# Altium schematic symbol library ECE453.SCHLIB: 85 symbols (part 3 of 4)
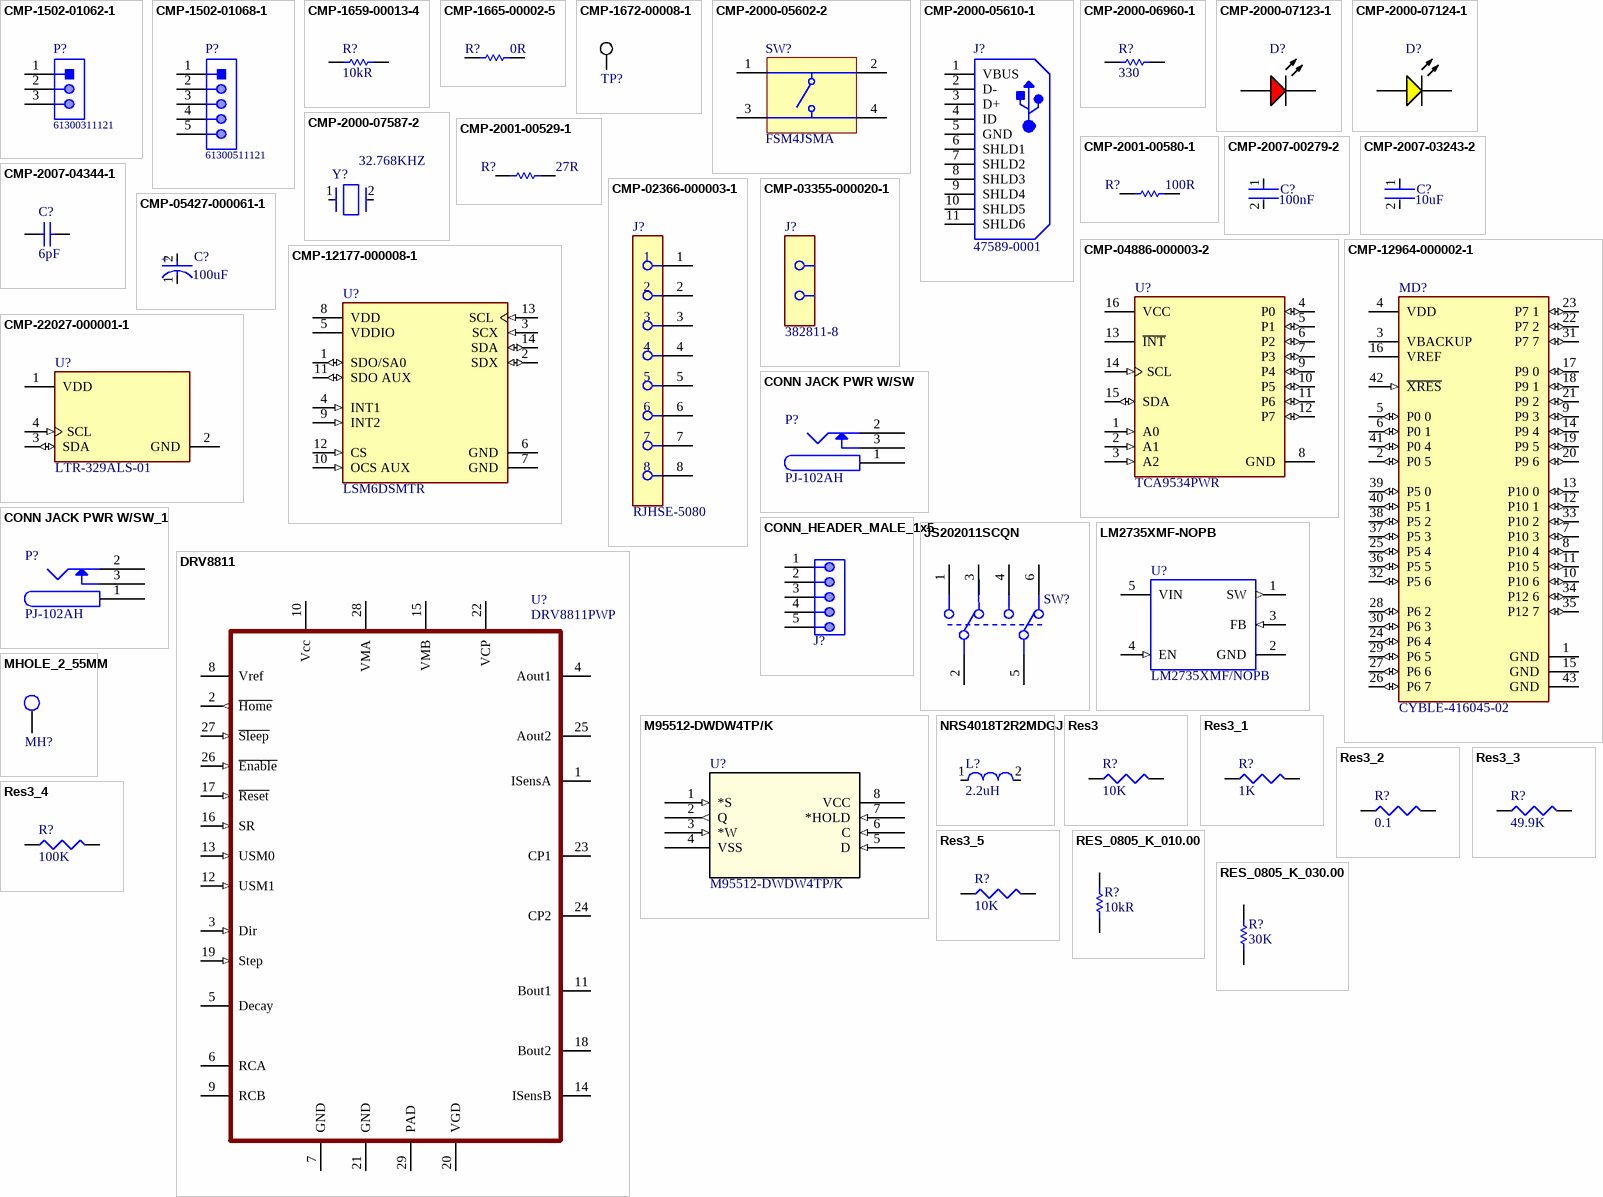
[diagram p4: symbols CMP-1502-01062-1 to RES_0805_K_030.00]

## CMP-2000-07123-1
designator D?, comment SML-LX1206IC-TR  (value not drawn)
LED Red, 65 mW, -40 to 85 degC, 2-Pin SMD, RoHS, Tape and Reel; Manufacturer: Lumex; Manufacturer Part Number: SMLLX1206ICTR; Lens Style: Clear,Diffused,Colorless,Rectangular; Forward Voltage: 2.6V; Viewing Angle: 160°; Luminous Intensity: 6mcd; Wavelength: 635nm; Forward Current: 100mA; Power Rating: 65mW; Voltage Rating (DC): 2V; Number of LEDs: 1; Supplier: Newark; Supplier Part Number: 80K7325; RoHS: Yes; Category: LEDs; Stock: 6050; Pricing: 1=0.099 (USD); Mounting Technology: Surface Mount; Case/Package: 1206; Pins: 2; Color: Red; Min Operating Temperature: -40°C; Max Operating Temperature: 85°C; Packaging: Tape and Reel; Dominant Wavelength: 635nm; Moisture Sensitivity Level: 2; Reach SVHC Compliant: No; Lead Free: Lead Free; ComponentLink1URL: https://datasheet.ciiva.com/12400/sml-lx1206ic-tr-112319-12400827.pdf?src-supplier=Mouser; ComponentLink1Description: https://datasheet.ciiva.com/12400/sml-lx1206ic-tr-112319-12400827.pdf?src-supplier=Mouser; ComponentLink2URL: https://datasheet.ciiva.com/2110/sml-lx1206ic-tr-2110300.pdf?src-supplier=Digi-Key; ComponentLink2Description: https://datasheet.ciiva.com/2110/sml-lx1206ic-tr-2110300.pdf?src-supplier=Digi-Key; ComponentLink3URL: https://datasheet.ciiva.com/2110/sml-lx1206ic-tr-2110301.pdf?src-supplier=Digi-Key; ComponentLink3Description: https://datasheet.ciiva.com/2110/sml-lx1206ic-tr-2110301.pdf?src-supplier=Digi-Key; ComponentLink4URL: https://datasheet.ciiva.com/2110/sml-lx1206ic-tr-2110302.pdf?src-supplier=Digi-Key; ComponentLink4Description: https://datasheet.ciiva.com/2110/sml-lx1206ic-tr-2110302.pdf?src-supplier=Digi-Key; ComponentLink5URL: https://datasheet.ciiva.com/15967/sml-lx1206ic-tr-15967210.pdf?src-supplier=Onlinecomponents.com; ComponentLink5Description: https://datasheet.ciiva.com/15967/sml-lx1206ic-tr-15967210.pdf?src-supplier=Onlinecomponents.com; ComponentLink6URL: https://datasheet.ciiva.com/8072/195796-8072871.pdf?src-supplier=Element14; ComponentLink6Description: https://datasheet.ciiva.com/8072/195796-8072871.pdf?src-supplier=Element14; ComponentLink7URL: https://datasheet.ciiva.com/8073/195796-8073097.pdf?src-supplier=Element14; ComponentLink7Description: https://datasheet.ciiva.com/8073/195796-8073097.pdf?src-supplier=Element14
footprint LUMX-SML-LX1206IC_V (SMD, 2-Leads, Body 3.2x1.5mm)
pins: 1 A, 2 K

## CMP-2000-07124-1
designator D?, comment SML-LX1206YC-TR  (value not drawn)
Yellow LED, Water Clear Len, 585 nm, 2.1 V, -40 to 85 degC, 2-Pin SMD, RoHS, Tape and Reel; Manufacturer: Lumex; Lens Color: Colorless,Clear; Viewing Angle: 160°; Lens Style: Flat,Rectangular,Diffused,Colorless; Forward Current: 20mA; Forward Voltage: 2.1V; Power Rating: 65mW; Luminous Intensity: 6mcd; Wavelength: 585nm; Dominant Wavelength: 568nm; Number of LEDs: 1; Lens Size: 1.5mm; Approvals: UL,CSA; Supplier: Newark; Supplier Part Number: 09J9559; Manufacturer Part Number: SML-LX1206YC-TR; RoHS: Yes; Category: LEDs; Stock: 947; Pricing: 1=0.367, 25=0.241, 50=0.203, 100=0.164, 250=0.144, 500=0.122, 1000=0.105 (USD); Mounting Technology: Surface Mount; Case/Package: 1206; Pins: 2; Color: Yellow; Case Code (Metric): 3216; Case Code (Imperial): 1206; Min Operating Temperature: -25°C; Max Operating Temperature: 85°C; Package Quantity: 3000; Packaging: Tape and Reel; Illumination Color: Yellow; Test Current: 20mA; Lens Transparency: Clear; Series: -; Moisture Sensitivity Level: 2; Length: 3.2mm; Width: 1.6mm; Height: 1.1mm; Reach SVHC Compliant: No; Lead Free: Lead Free; RoHS Compliant: Yes; ComponentLink1URL: https://datasheet.ciiva.com/4689/sml-lx1206yc-tr-112772-4689232.pdf?src-supplier=Mouser; ComponentLink1Description: https://datasheet.ciiva.com/4689/sml-lx1206yc-tr-112772-4689232.pdf?src-supplier=Mouser; ComponentLink2URL: https://datasheet.ciiva.com/8072/269322-8072890.pdf?src-supplier=Element14; ComponentLink2Description: https://datasheet.ciiva.com/8072/269322-8072890.pdf?src-supplier=Element14; ComponentLink3URL: https://datasheet.ciiva.com/2110/sml-lx1206yc-tr-2110320.pdf?src-supplier=Digi-Key; ComponentLink3Description: https://datasheet.ciiva.com/2110/sml-lx1206yc-tr-2110320.pdf?src-supplier=Digi-Key; ComponentLink4URL: https://datasheet.ciiva.com/8073/269322-8073067.pdf?src-supplier=Element14; ComponentLink4Description: https://datasheet.ciiva.com/8073/269322-8073067.pdf?src-supplier=Element14
footprint LUMX-SML-LX1206YC-TR_V (SMD, 2-Leads, Body 3.2x1.5mm)
pins: 1 A, 2 K

## CMP-2000-07587-2
designator Y?, comment 32.768KHZ
CRYSTAL 32.7680KHZ 6PF SMD; Manufacturer: Abracon; Manufacturer Part Number: ABS07-120-32.768KHZ-T; Tolerance: 20ppm; ESR (Equivalent Series Resistance): 55kR; ESR: 60kR; Supplier: Newark; Supplier Part Number: 56AC7523; RoHS: Yes; Category: Crystals; Stock: 20747; Pricing: 1=0.587, 25=0.587, 50=0.587, 100=0.587, 250=0.587, 500=0.587, 1000=0.532 (USD); Mounting Technology: Surface Mount; Case/Package: SMD/SMT; Pins: 2; Min Operating Temperature: -40°C; Max Operating Temperature: 85°C; Frequency: 32.768kHz; Load Capacitance: 6pF; Frequency Tolerance: 20ppm; Packaging: Tape and Reel; Package Quantity: 3000; Termination: SMD/SMT; Series: ABS07; Operating Frequency: 32.768 kHz; Length: 3.2mm; Width: 1.5mm; Height: 0.9mm; Depth: 1.5mm; Radiation Hardening: No; Reach SVHC Compliant: No; Lead Free: Lead Free; RoHS Compliant: Yes; ComponentLink1URL: https://datasheet.ciiva.com/6728/abs07-120-32-768khz-t-6728893.pdf?src-supplier=Digi-Key; ComponentLink1Description: https://datasheet.ciiva.com/6728/abs07-120-32-768khz-t-6728893.pdf?src-supplier=Digi-Key; ComponentLink2URL: https://datasheet.ciiva.com/12387/abs07-120-32-768khz-t-218607-12387629.pdf?src-supplier=Mouser; ComponentLink2Description: https://datasheet.ciiva.com/12387/abs07-120-32-768khz-t-218607-12387629.pdf?src-supplier=Mouser
footprint FP-ABS07-120-MFG
pins: 1, 2

## CMP-2001-00529-1
designator R?, comment value 27R  (hidden comment: ERJ6ENF27R0V)
Res Thick Film 0805 27 Ohm 1% 1/8W ±100ppm/°C Molded SMD Punched Carrier T/R; Manufacturer: Vishay; Manufacturer Part Number: CRCW080527R0FKEAHP; Manufacturer: Panasonic; Manufacturer Part Number: ERJ-6ENF27R0V; Max Power Dissipation: 500mW; Power Rating: 330mW; Voltage Rating (DC): 150V; Supplier: Newark; Supplier Part Number: 95AC8908; RoHS: Yes; Category: Chip SMD Resistors; Stock: 20000; Pricing: 1=0.031, 5000=0.031 (USD); Case/Package: 0805; Case Code (Metric): 2012; Case Code (Imperial): 0805; Contact Plating: Tin; Min Operating Temperature: -55°C; Max Operating Temperature: 155°C; Series: CRCW-HP; Packaging: Cut Tape; Tolerance: 1%; Number of Terminations: 2; Temperature Coefficient: 100ppm/°C; Package Quantity: 5000; Features: Automotive AEC-Q200; Voltage Rating: 150V; Termination: SMD/SMT; Resistor Type: Thick Film; Resistance Tolerance: 1%; Technology: THICK FILM; Length: 0.079inch; Width: 0.049inch; Height: 0.024inch; Depth: 1.25mm; Ratings: AEC-Q200; Radiation Hardening: No; RoHS Compliant: Yes; Lead Free: Lead Free; Reach SVHC Compliant: Unknown; ComponentLink1URL: https://datasheet.ciiva.com/7672/1885357-7672983.pdf?src-supplier=Element14; ComponentLink1Description: https://datasheet.ciiva.com/7672/1885357-7672983.pdf?src-supplier=Element14; ComponentLink2URL: https://datasheet.ciiva.com/2581/crcwhpe3-2581385.pdf?src-supplier=Digi-Key; ComponentLink2Description: https://datasheet.ciiva.com/2581/crcwhpe3-2581385.pdf?src-supplier=Digi-Key; ComponentLink3URL: https://datasheet.ciiva.com/7672/1885357-7672984.pdf?src-supplier=Element14; ComponentLink3Description: https://datasheet.ciiva.com/7672/1885357-7672984.pdf?src-supplier=Element14; Mounting Technology: Surface Mount; Pins: 2; ComponentLink4URL: https://datasheet.ciiva.com/11821/0900766b80f80784-11821579.pdf?src-supplier=Rs; ComponentLink4Description: https://datasheet.ciiva.com/11821/0900766b80f80784-11821579.pdf?src-supplier=Rs; ComponentLink5URL: https://datasheet.ciiva.com/5915/aoa0000ce2-5915340.pdf?src-supplier=Farnell; ComponentLink5Description: https://datasheet.ciiva.com/5915/aoa0000ce2-5915340.pdf?src-supplier=Farnell; ComponentLink6URL: https://datasheet.ciiva.com/9191/aoa0000ce2-9191159.pdf?src-supplier=Avnet; ComponentLink6Description: https://datasheet.ciiva.com/9191/aoa0000ce2-9191159.pdf?src-supplier=Avnet; ComponentLink7URL: https://datasheet.ciiva.com/22681/1678782-22681197.pdf?src-supplier=Element14; ComponentLink7Description: https://datasheet.ciiva.com/22681/1678782-22681197.pdf?src-supplier=Element14; ComponentLink8URL: https://datasheet.ciiva.com/22739/1678782-22739801.pdf?src-supplier=Element14; ComponentLink8Description: https://datasheet.ciiva.com/22739/1678782-22739801.pdf?src-supplier=Element14; ComponentLink9URL: https://datasheet.ciiva.com/24038/aoa0000ce2-24038711.pdf?src-supplier=Mouser; ComponentLink9Description: https://datasheet.ciiva.com/24038/aoa0000ce2-24038711.pdf?src-supplier=Mouser; ComponentLink10URL: https://datasheet.ciiva.com/16787/70260748-16787737.pdf?src-supplier=Allied+Electronics; ComponentLink10Description: https://datasheet.ciiva.com/16787/70260748-16787737.pdf?src-supplier=Allied+Electronics
footprint RESC2013X70X40ML20T20 (Chip Resistor, 2-Leads, Body 2.00x1.25mm, IPC Low Density)
footprint RESC2013X70X40LL20T20 (Chip Resistor, 2-Leads, Body 2.00x1.25mm, IPC High Density)
footprint RESC2013X70X40NL20T20 (Chip Resistor, 2-Leads, Body 2.00x1.25mm, IPC Medium Density)
pins: 1, 2
1 alternate drawing of the same symbol

## CMP-2001-00580-1
designator R?, comment value 100R  (hidden comment: ERA6AEB101V)
SMD Chip Resistor, 100 Ohm, ± 1%, 125 mW, 0805 [2012 Metric], Thick Film, General Purpose; Manufacturer: Yageo; Manufacturer Part Number: RC0805FR-07100RL; Manufacturer: Panasonic; Manufacturer Part Number: ERA-6AEB101V; Power Rating: 125mW; Voltage Rating: 150V; Temperature Coefficient: 100ppm/°C; Application(s): HIGH RELIABILITY; Supplier: Newark; Supplier Part Number: 98K7775; RoHS: Yes; Category: Chip SMD Resistors; Stock: 1243890; Pricing: 1=0.102, 10=0.026, 25=0.021, 50=0.017, 100=0.013 (USD); Case Code (Imperial): 0805; Case Code (Metric): 2012; Weight: 0.000917oz; Min Operating Temperature: -55°C; Max Operating Temperature: 155°C; Tolerance: 1%; Packaging: Cut Tape; Package Quantity: 5000; Termination: SMD/SMT; Type: General Purpose; Series: RC; Technology: THICK FILM; Length: 2mm; Width: 1.25mm; Height: 0.5mm; Lead Free: Lead Free; RoHS Compliant: Yes; ComponentLink1URL: https://datasheet.ciiva.com/7941/1697719-7941680.pdf?src-supplier=Element14; ComponentLink1Description: https://datasheet.ciiva.com/7941/1697719-7941680.pdf?src-supplier=Element14; ComponentLink2URL: https://datasheet.ciiva.com/11808/0900766b8106beab-11808877.pdf?src-supplier=Rs; ComponentLink2Description: https://datasheet.ciiva.com/11808/0900766b8106beab-11808877.pdf?src-supplier=Rs; ComponentLink3URL: https://datasheet.ciiva.com/22747/444164-22747535.pdf?src-supplier=Element14; ComponentLink3Description: https://datasheet.ciiva.com/22747/444164-22747535.pdf?src-supplier=Element14; ComponentLink4URL: https://datasheet.ciiva.com/17082/rc0805-17082697.pdf?src-supplier=Future+Electronics; ComponentLink4Description: https://datasheet.ciiva.com/17082/rc0805-17082697.pdf?src-supplier=Future+Electronics; ComponentLink5URL: https://datasheet.ciiva.com/7941/1686128-7941679.pdf?src-supplier=Element14; ComponentLink5Description: https://datasheet.ciiva.com/7941/1686128-7941679.pdf?src-supplier=Element14; ComponentLink6URL: https://datasheet.ciiva.com/46447/444164-46447562.pdf?src-supplier=Element14; ComponentLink6Description: https://datasheet.ciiva.com/46447/444164-46447562.pdf?src-supplier=Element14; ComponentLink7URL: https://datasheet.ciiva.com/7660/38627-7660797.pdf?src-supplier=Element14; ComponentLink7Description: https://datasheet.ciiva.com/7660/38627-7660797.pdf?src-supplier=Element14; ComponentLink8URL: https://datasheet.ciiva.com/2456/pyu-r-int-thick-7-2456988.pdf?src-supplier=Digi-Key; ComponentLink8Description: https://datasheet.ciiva.com/2456/pyu-r-int-thick-7-2456988.pdf?src-supplier=Digi-Key; ComponentLink9URL: https://datasheet.ciiva.com/2456/pyu-r-int-thick-7-2456987.pdf?src-supplier=Digi-Key; ComponentLink9Description: https://datasheet.ciiva.com/2456/pyu-r-int-thick-7-2456987.pdf?src-supplier=Digi-Key; ComponentLink10URL: https://datasheet.ciiva.com/2456/pyu-r-int-thick-7-2456989.pdf?src-supplier=Digi-Key; ComponentLink10Description: https://datasheet.ciiva.com/2456/pyu-r-int-thick-7-2456989.pdf?src-supplier=Digi-Key
footprint RESC2013X60X40ML20T25 (Chip Resistor, 2-Leads, Body 2.00x1.25mm, IPC Low Density)
footprint RESC2013X60X40LL20T25 (Chip Resistor, 2-Leads, Body 2.00x1.25mm, IPC High Density)
footprint RESC2013X60X40NL20T25 (Chip Resistor, 2-Leads, Body 2.00x1.25mm, IPC Medium Density)
pins: 1, 2
1 alternate drawing of the same symbol

## CMP-2007-00279-2
designator C?, comment value 100nF  (hidden comment: C0805C104K5RACTU)
CAP CER 0.1UF 50V X7R 0805; Manufacturer: KEMET; Tolerance: 10%; Voltage: 500V; ComponentLink2Description: Datasheet; ComponentLink2URL: https://content.kemet.com/datasheets/KEM_C1003_C0G_SMD.pdf; Supplier: Newark; Supplier Part Number: 19C6015; Manufacturer Part Number: C0805C104K5RACTU; RoHS: Yes; Category: Ceramic Capacitors; Stock: 3382390; Pricing: 1=0.024, 25=0.024, 50=0.024, 100=0.024, 250=0.024, 500=0.024, 1000=0.024 (USD); Mounting Technology: Surface Mount,PCB; Case/Package: 0805; Pins: 2; Case Code (Imperial): 0805; Case Code (Metric): 2012; Min Operating Temperature: -55°C; Max Operating Temperature: 125°C; Package Quantity: 4000; Voltage Rating: 50V; Packaging: Tape and Reel; Voltage Rating (DC): 50V; Dielectric: X7R; Termination: SMD/SMT; Series: SMD Comm X7R; Construction: Flat; Length: 2mm; Width: 1.2mm; Height: 0.9mm; Lead Pitch: 0.75mm; Depth: 1.25mm; Radiation Hardening: No; RoHS Compliant: Yes; Reach SVHC Compliant: No; ComponentLink1URL: https://datasheet.ciiva.com/32431/slceramic-chip-condensers-e-32431755.pdf?src-supplier=Distrelec; ComponentLink1Description: https://datasheet.ciiva.com/32431/slceramic-chip-condensers-e-32431755.pdf?src-supplier=Distrelec; ComponentLink3URL: https://datasheet.ciiva.com/28682/1851736-28682232.pdf?src-supplier=Element14; ComponentLink3Description: https://datasheet.ciiva.com/28682/1851736-28682232.pdf?src-supplier=Element14
footprint FP-C0805C-DN-MFG
footprint FP-C0805C-DN-IPC_C
footprint FP-C0805C-DN-IPC_B
footprint FP-C0805C-DN-IPC_A
pins: 1, 2

## CMP-2007-03243-2
designator C?, comment value 10uF  (hidden comment: C0805C106K8PACTU)
CAP CER 10UF 10V X5R 0805; Manufacturer: KEMET; Dielectric Material: Ceramic; Tolerance: 10%; Supplier: Newark; Supplier Part Number: 70K9138; Manufacturer Part Number: C0805C106K8PACTU; RoHS: Yes; Category: Ceramic Capacitors; Stock: 186414; Pricing: 1=0.141, 25=0.141, 50=0.141, 100=0.141, 250=0.141, 500=0.141, 1000=0.141 (USD); Mounting Technology: Surface Mount; Case/Package: 0805; Pins: 2; Contact Plating: Tin,Matte; Case Code (Imperial): 0805; Case Code (Metric): 2012; Min Operating Temperature: -55°C; Max Operating Temperature: 85°C; Packaging: Tape and Reel; Dielectric: X5R; Voltage Rating (DC): 10V; Termination: SMD/SMT; Package Quantity: 1; Voltage Rating: 10V; Voltage: 10V; Dissipation Factor: 10%; Series: C; Construction: Flat; Length: 2mm; Width: 0.049inch; Height: 1.25mm; Depth: 1.25mm; Thickness: 0.055inch; Radiation Hardening: No; Reach SVHC Compliant: No; RoHS Compliant: Yes; ComponentLink1URL: https://datasheet.ciiva.com/7842/1732709-7842198.pdf?src-supplier=Element14; ComponentLink1Description: https://datasheet.ciiva.com/7842/1732709-7842198.pdf?src-supplier=Element14
footprint FP-C0805C-DG-MFG
footprint FP-C0805C-DG-IPC_C
footprint FP-C0805C-DG-IPC_B
footprint FP-C0805C-DG-IPC_A
pins: 1, 2

## CMP-2007-04344-1
designator C?, comment value 6pF  (hidden comment: 08055A6R0CAT2A)
Cap Ceramic 6pF 50V C0G 0.25pF SMD 0805 125°C Paper T/R; Manufacturer: KEMET; Manufacturer Part Number: CBR08C609C5GAC; Manufacturer: Kyocera AVX; Supplier: Newark; Supplier Part Number: 64AJ3970; RoHS: Yes; Category: Ceramic Capacitors; Stock: 1930; Pricing: 10=0.048, 25=0.048, 50=0.048, 100=0.048, 250=0.048, 500=0.048, 1000=0.048 (USD); Mounting Technology: Surface Mount; Case/Package: 0805; Min Operating Temperature: -55°C; Max Operating Temperature: 125°C; Packaging: Tape and Reel; Package Quantity: 4000; Voltage Rating: 50V; Series: CBR; Length: 0.079inch; Width: 0.049inch; Thickness: 0.035inch; RoHS Compliant: Yes; ComponentLink1URL: https://search.kemet.com/component-edge/download/datasheet/CBR08C609C5GAC.pdf?src-supplier=Digi-Key; ComponentLink1Description: https://search.kemet.com/component-edge/download/datasheet/CBR08C609C5GAC.pdf?src-supplier=Digi-Key; Manufacturer Part Number: 08055A6R0CAT2A
footprint CAPC2013X94X50LL20T25 (Chip Capacitor, 2-Leads, Body 2.01x1.25mm, IPC High Density)
footprint CAPC2013X94X50ML20T25 (Chip Capacitor, 2-Leads, Body 2.01x1.25mm, IPC Low Density)
footprint CAPC2013X94X50NL20T25 (Chip Capacitor, 2-Leads, Body 2.01x1.25mm, IPC Medium Density)
pins: 1, 2
1 alternate drawing of the same symbol

## CMP-02366-000003-1
designator J?, comment RJHSE-5080
CONN MOD JACK 8P8C R/A UNSHLD; Manufacturer: Amphenol; Current Rating: 1.5A; Voltage Rating: 125V; Pitch: 1.02mm; Conn Orientation: Right Angle; Number Of Contacts: 8; Is Female: yes; Conn Gender: Female; Contact Resistance: 20mR; Number of Ports: 1; Connector Type: RJ45; Lead Free: Yes; Device Class L3: unset; Footprint Url: https://cdn.amphenol-icc.com/media/wysiwyg/files/drawing/rjhse5080.pdf?__cf_chl_jschl_tk__=e349db0bbbb6188a39347cd5e541b92fa02c9719-1587748343-0-AW7tChdeHzRPLX9gSWj7WrKaXQoY9BsmT9Ek0h-T62M9y3Rs9iypFcOtkzb-6sGYQEjFE-jcoNciDETCOZrh1rYyOesac5SvYLoLwHIsHvF4AKBlx-MXmfZUVk9OTTJLqyQq2qMm0PFRLJpNcK0nrKResqOniRSYixG2sPTmOPraH-ULJFBDL602CHqcI9KKBgTq90Jh1OL2Td4moJ99rFsJRJ1Tk_uoxGe8ublcP_ARu-uLpWcQrBcwOcHDTAwL29DAwVaqcH7ta8Ks7WMlHmVl_pILeEDwT0bE9vu5Pa5S3PtNRF1leuFkgi_FMbUxTDulc5xzbXSfng8srUIV1lWXny5nx1fZJEUa_w97yKjffzBMxiWLWVN-V7-uqAaPbyv_m-wRyw5O25OZNyJOeGU; ComponentLink2URL: https://cdn.amphenol-icc.com/media/wysiwyg/files/documentation/datasheet/inputoutput/io-modjack-rjhse.pdf; Device Class L1: Connectors; Package: CONN_MOD_JACK; Mouser Description: Modular Connectors / Ethernet Connectors R/A RJ45 NONSHIELDED 8 CONT NO LEDS; Manufacturer Part Number: RJHSE-5080; Octopart: https://octopart.com/rjhse-5080-amphenol-45060; Category: Conn; Height: 0.535inch; Temperature: -55°C to +85°C; Digikey Description: CONN MOD JACK 8P8C R/A UNSHLD; Device Class L2: Modular / Ethernet Connectors; Contact Material: Gold,Nickel; ComponentLink2Description: Datasheet; Temperature Range Low: -55°C; RoHS: TRUE; Automotive: No; Temperature Range High: +85°C; Supplier: Newark; Supplier Part Number: 28T0105; Stock: 8640; Pricing: 1=0.966, 10=0.854, 25=0.808, 50=0.777, 100=0.748, 250=0.688, 500=0.627, 1000=0.568 (USD); Mounting Technology: Through Hole,Panel; Contact Plating: Gold; Max Current Rating: 1.5A; Number of Positions Loaded: 8; Max Voltage Rating (AC): 125V; Orientation: Right Angle; Packaging: Rail/Tube; Gender: Female; Termination: Solder; Number of Positions: 8; Voltage Rating (DC): 125V; Length: 15.75mm; Depth: 14.99mm; Radiation Hardening: No; RoHS Compliant: Yes; Reach SVHC Compliant: Unknown; ComponentLink1URL: https://datasheet.ciiva.com/7629/1682821-7629402.pdf?src-supplier=Element14; ComponentLink1Description: https://datasheet.ciiva.com/7629/1682821-7629402.pdf?src-supplier=Element14; ComponentLink3URL: https://datasheet.ciiva.com/685/rjhse5080-685586.pdf?src-supplier=Digi-Key; ComponentLink3Description: https://datasheet.ciiva.com/685/rjhse5080-685586.pdf?src-supplier=Digi-Key; ComponentLink4URL: https://datasheet.ciiva.com/1432/1693748-1432448.pdf?src-supplier=Element14; ComponentLink4Description: https://datasheet.ciiva.com/1432/1693748-1432448.pdf?src-supplier=Element14; ComponentLink5URL: https://datasheet.ciiva.com/15171/getdatasheetpartid-643190-15171163.pdf?src-supplier=Verical; ComponentLink5Description: https://datasheet.ciiva.com/15171/getdatasheetpartid-643190-15171163.pdf?src-supplier=Verical
footprint FP-RJHSE-5080-MFG
pins: 1, 2, 3, 4, 5, 6, 7, 8

## CMP-03355-000020-1
designator J?, comment 382811-8
CONN SHUNT 2POS OPEN 2.54MM; Manufacturer 1: TE Connectivity; Number of Positions: 2; Current Rating: 3A; Approvals: UL; Plating Thickness: 0.127um; Insulation Resistance: 1GR; Max Operating Temperature: 105°C; Housing Material: Polyester; Flammability Rating: UL94 V-0; Package Quantity: 1500; Contact Current Rating: 3A; Pitch: 2.54mm; Height: 6.35mm; Lead Free: Lead Free; Contact Gender: Female; Length: 5.08mm; Color: Black; Housing Color: Black; Min Operating Temperature: -65°C; Series: AMPMODU; Depth: 2.54mm; Number of Rows: 1; Orientation: Straight; Number of Contacts: 2; Contact Plating: Gold; ELV: Compliant; Radiation Hardening: No; Contact Material: Bronze; Packaging: Box; Supplier 1: Digi-Key; Supplier Part Number 1: A26228-ND; Manufacturer Part Number 1: 382811-8; RoHS: Yes; Category: Board to Board Connectors; Stock 1: 342640; Pricing 1: 10=0.192, 30=0.17833, 50=0.169, 100=0.1599, 250=0.14884, 500=0.14026, 1000=0.1329, 2500=0.1231, 5000=0.11147 (USD); Reach SVHC Compliant: Unknown; RoHS Compliant: Yes; ComponentLink1URL: https://datasheet.ciiva.com/25616/0900766b810caf26-25616808.pdf?src-supplier=Rs; ComponentLink1Description: https://datasheet.ciiva.com/25616/0900766b810caf26-25616808.pdf?src-supplier=Rs; ComponentLink2URL: https://datasheet.ciiva.com/767/eng-cd-382811-l-767846.pdf?src-supplier=Digi-Key; ComponentLink2Description: https://datasheet.ciiva.com/767/eng-cd-382811-l-767846.pdf?src-supplier=Digi-Key; ComponentLink3URL: https://datasheet.ciiva.com/30253/eng-cs-1307819-section-6-7and8-0808-30253247.pdf?src-supplier=Onlinecomponents.com; ComponentLink3Description: https://datasheet.ciiva.com/30253/eng-cs-1307819-section-6-7and8-0808-30253247.pdf?src-supplier=Onlinecomponents.com; ComponentLink4URL: https://datasheet.ciiva.com/14640/70083050-14640423.pdf?src-supplier=Allied+Electronics; ComponentLink4Description: https://datasheet.ciiva.com/14640/70083050-14640423.pdf?src-supplier=Allied+Electronics; ComponentLink5URL: https://datasheet.ciiva.com/1412/eng-cs-1307819-section-6-7and8-0808-1412631.pdf?src-supplier=Element14; ComponentLink5Description: https://datasheet.ciiva.com/1412/eng-cs-1307819-section-6-7and8-0808-1412631.pdf?src-supplier=Element14; ComponentLink6URL: https://datasheet.ciiva.com/3120/eng-cs-1307819-section-6-7and8-0808-3120187.pdf?src-supplier=Avnet; ComponentLink6Description: https://datasheet.ciiva.com/3120/eng-cs-1307819-section-6-7and8-0808-3120187.pdf?src-supplier=Avnet; Supplier: Newark; Supplier Part Number: 52F5498; Manufacturer: TE Connectivity; Manufacturer Part Number: 382811-8; Stock: 6205; Pricing: 1=0.255, 10=0.171, 25=0.156, 100=0.14, 500=0.131, 1000=0.105 (USD)
footprint FP-382811-8-MFG

## CMP-04886-000003-2
designator U?, comment TCA9534PWR
IC I/O EXPANDER I2C 8B 16TSSOP; Manufacturer 1: Texas Instruments; Number of I/Os: 8; Frequency: 400kHz; Packaging: Tape and Reel; Number of Pins: 16; Min Operating Temperature: -40°C; RoHS Compliant: Yes; Number of Outputs: 8; Lead Free: Lead Free; Mount: Surface Mount; Max Operating Temperature: 85°C; Interface: I2C; Case/Package: TSSOP; Supplier 1: Digi-Key; Supplier Part Number 1: 296-40574-1-ND; Manufacturer Part Number 1: TCA9534PWR; RoHS: Yes; Category: Interface ICs; Stock 1: 63981; Pricing 1: 1=1.45000, 10=1.29500, 25=1.22880, 100=1.00930, 250=0.94352, 500=0.83380, 1000=0.66240 (USD); ComponentLink1URL: https://datasheet.ciiva.com/48508/tca9534-48508117.pdf?src-supplier=Avnet; ComponentLink1Description: https://datasheet.ciiva.com/48508/tca9534-48508117.pdf?src-supplier=Avnet
footprint FP-PW0016A-IPC_A
footprint FP-PW0016A-IPC_B
footprint FP-PW0016A-IPC_C
footprint FP-PW0016A-MFG
pins: 1 A0 (in), 2 A1 (in), 3 A2 (in), 4 P0 (io), 5 P1 (io), 6 P2 (io), 7 P3 (io), 8 GND (power), 9 P4 (io), 10 P5 (io), 11 P6 (io), 12 P7 (io), 13 ~{INT} (oc), 14 SCL (in), 15 SDA (io), 16 VCC (power)

## CMP-05427-000061-1
designator C?, comment Capacitance: 100uF  (hidden comment: EEE-1EA101XP)
CAP ALUM 100UF 20% 25V SMD; Manufacturer: Panasonic; Leakage Current: 3uA; Life (Hours): 2000Hour; Ripple Current: 143mA; Polarity: Polar; Height - Seated (Max): 0.303inch; Contact Plating: Tin; Max Operating Temperature: 85°C; Package Quantity: 900; RoHS Compliant: Yes; Termination: SMD/SMT; Lead Free: Lead Free; Min Operating Temperature: -40°C; Radiation Hardening: No; Length: 8mm; Height: 7.7mm; Series: S; Voltage Rating: 25V; Diameter: 6.3mm; Ripple Current (AC): 143mA; Case/Package: Radial; Packaging: Tape and Reel; Voltage: 25V; Tolerance: 20%; Construction: Cylindrical; Voltage Rating (DC): 25V; Mount: Surface Mount; Supplier: Newark; Supplier Part Number: 47AC4798; Manufacturer Part Number: EEE-1EA101XP; RoHS: Yes; Category: Aluminum Electrolytic Capacitors; Stock: 12600; Pricing: 1=0.166, 900=0.162, 1800=0.158 (USD); Mounting Technology: Surface Mount,PCB; Value: 100uF; Ratings: AEC-Q200; Reach SVHC Compliant: Unknown; ComponentLink1URL: https://media.digikey.com/pdf/Data%20Sheets/Panasonic%20Electronic%20Components/S_Series,Type_V_Rev2018.pdf?src-supplier=Digi-Key; ComponentLink1Description: https://media.digikey.com/pdf/Data%20Sheets/Panasonic%20Electronic%20Components/S_Series,Type_V_Rev2018.pdf?src-supplier=Digi-Key; ComponentLink2URL: https://industrial.panasonic.com/cdbs/www-data/pdf/RDE0000/DME0000COL90.pdf?src-supplier=Digi-Key; ComponentLink2Description: https://industrial.panasonic.com/cdbs/www-data/pdf/RDE0000/DME0000COL90.pdf?src-supplier=Digi-Key; ComponentLink3URL: https://industrial.panasonic.com/cdbs/www-data/pdf/RDE0000/DME0000COL90.pdf?src-supplier=Arrow+Electronics; ComponentLink3Description: https://industrial.panasonic.com/cdbs/www-data/pdf/RDE0000/DME0000COL90.pdf?src-supplier=Arrow+Electronics
footprint FP-SD8-MFG
pins: 1 C, 2 A
text: +

## CMP-12177-000008-1
designator U?, comment LSM6DSMTR
IMU ACCEL/GYRO I2C/SPI 14LGA; Manufacturer: STMicroelectronics; Operating Supply Current: 0.29-0.65mA; Gyro Range: 125/250/500/1000/2000°/s; Sensor Output: I2C,SPI; Accel Range: 2/4/8/16g; Min Supply Voltage: 1.62V; Resolution: 16bits; Sensor Type: Temperature,Accelerometer,Gyroscope; Max Supply Voltage: 3.6V; Manufacturer Part Number: LSM6DSMTR; Octopart: https://octopart.com/lsm6dsmtr-stmicroelectronics-66358194; Height: 0.86mm; Category: IC; Lead Free: Yes; Temperature: -40°C to +85°C; Temperature Range Low: -40°C; ComponentLink2Description: Datasheet; ComponentLink2URL: https://www.st.com/resource/en/datasheet/lsm6dsm.pdf; Digikey Description: IMU ACCEL/GYRO I2C/SPI 14LGA; Footprint Url: https://www.st.com/content/ccc/resource/technical/document/technical_note/73/17/9c/16/dd/96/4a/01/CD00134799.pdf/files/CD00134799.pdf/jcr:content/translations/en.CD00134799.pdf; Device Class L1: Sensors; Device Class L2: Motion Sensors; Temperature Range High: +85°C; Mouser Description: LSM6DSM Series 3.6 V I2C/SPI 3D Accelerometer and 3D Gyroscope - LGA-14; Device Class L3: Inertial Measurement Units (IMUs); Automotive: No; Package: LGA-14L-DM00249496; RoHS: TRUE
footprint FP-LGA-14L-DM00249496-MFG
pins: 1 SDO/SA0 (io), 2 SDX (io), 3 SCX (in), 4 INT1 (in), 5 VDDIO (power), 6 GND (power), 7 GND (power), 8 VDD (power), 9 INT2 (in), 10 OCS AUX (in), 11 SDO AUX (io), 12 CS (in), 13 SCL (in), 14 SDA (io)

## CMP-12964-000002-1
designator MD?, comment CYBLE-416045-02  (no BOM)
RF TXRX MOD BLUETOOTH TRACE ANT; Manufacturer: Cypress Semiconductor; Manufacturer 1: Cypress; Number Of Gpio: 36; Number Of Adc Channels: 1; Max Supply Voltage: 3.6V; Min Supply Voltage: 1.71V; Data Rate: 2Mbits/s; Receiving Current: 6.7mA; Max Frequency: 2.5GHz; Bandwidth: 100MHz; Transmitting Current: 5.7mA; Interface: I2C,SPI,UART,I2S,Other; Octopart: https://octopart.com/cyble-416045-02-cypress+semiconductor-96386825; Lead Free: Yes; RoHS: TRUE; Device Class L3: Transceivers; Category: UNK; Package: 0; Device Class L2: RF Semiconductors and Devices; Automotive: No; ComponentLink2URL: https://www.cypress.com/file/428336/download; Temperature Range Low: -40°C; Height: 2mm; Device Class L1: Integrated Circuits (ICs); Manufacturer Part Number: CYBLE-416045-02; ComponentLink2Description: Datasheet; Digikey Description: RF TXRX MOD BLUETOOTH TRACE ANT; Temperature: -40°C to +85°C; Temperature Range High: +85°C; Supplier 1: Digi-Key; Supplier Part Number 1: 428-4622-1-ND; Manufacturer Part Number 1: CYBLE-416045-02; Stock 1: 3441; Pricing 1: 1=16.24000, 10=14.69300, 25=13.53280, 100=12.37280, 250=11.59952 (USD); RoHS Compliant: Yes
footprint FP-CYBLE-416045-02-MFG
pins: 1 GND (power), 2 P0 5 (io), 3 VBACKUP (power), 4 VDD (power), 5 P0 0 (io), 6 P0 1 (io), 7 P10 3 (io), 8 P10 4 (io), 9 P9 3 (io), 10 P10 6 (io), 11 P10 5 (io), 12 P10 1 (io), 13 P10 0 (io), 14 P9 4 (io), 15 GND (power), 16 VREF (power), 17 P9 0 (io), 18 P9 1 (io), 19 P9 5 (io), 20 P9 6 (io), 21 P9 2 (io), 22 P7 2 (io), 23 P7 1 (io), 24 P6 4 (io), 25 P5 4 (io), 26 P6 7 (io), 27 P6 6 (io), 28 P6 2 (io), 29 P6 5 (io), 30 P6 3 (io), 31 P7 7 (io), 32 P5 6 (io), 33 P10 2 (io), 34 P12 6 (io), 35 P12 7 (io), 36 P5 5 (io), 37 P5 3 (io), 38 P5 2 (io), 39 P5 0 (io), 40 P5 1 (io), 41 P0 4 (io), 42 ~{XRES} (in), 43 GND (power)

## CMP-22027-000001-1
designator U?, comment LTR-329ALS-01
SENSOR OPT AMBIENT 4DFN; Manufacturer 1: Vishay Lite-On; Output Type: I2C; Mount: Surface Mount; Packaging: Tape and Reel; Min Operating Temperature: -30°C; Max Operating Temperature: 70°C; Number of Pins: 4; Case/Package: SMD/SMT; Supplier 1: Digi-Key; Supplier Part Number 1: 160-2160-1-ND; Manufacturer Part Number 1: LTR-329ALS-01; RoHS: Yes; Category: Photoelectric Sensors; Stock 1: 25612; Pricing 1: 1=1.06, 5=1.01, 10=0.879, 25=0.772, 50=0.6412, 100=0.5462, 500=0.475, 1000=0.41562 (USD); Series: -; RoHS Compliant: Yes; ComponentLink1URL: http://optoelectronics.liteon.com/upload/download/DS86-2014-0006/LTR-329ALS-01_DS_V1.pdf?src-supplier=Digi-Key; ComponentLink1Description: http://optoelectronics.liteon.com/upload/download/DS86-2014-0006/LTR-329ALS-01_DS_V1.pdf?src-supplier=Digi-Key; Supplier: Newark; Supplier Part Number: 61AC0074; Manufacturer: Vishay Lite-On; Manufacturer Part Number: LTR-329ALS-01; Mounting Technology: Surface Mount; Pins: 4; ComponentLink2URL: https://datasheet.octopart.com/LTR-329ALS-01-Lite-On-datasheet-138896716.pdf?src-supplier=Future+Electronics; ComponentLink2Description: https://datasheet.octopart.com/LTR-329ALS-01-Lite-On-datasheet-138896716.pdf?src-supplier=Future+Electronics
footprint FP-LTR-329ALS-01-MFG
pins: 1 VDD (power), 2 GND (power), 3 SDA (io), 4 SCL (in)

## CONN JACK PWR W/SW
designator P?, comment Manufacturer Part Number: PJ-102AH  (hidden comment: PJ-102)
CONN PWR JACK 2.1X5.5MM HIGH CUR; Manufacturer: CUI Inc; Internal Switch(s): Single Switch, Normally Closed; Number of Positions/Contacts: 2 Conductors, 3 Contacts; Plug/Mating Plug Diameter: 2.1mm ID, 5.5mm OD; Gender: Male; Shielding: Unshielded; Voltage - Rated: 24VDC; Current Rating: 5A; Value: CP-102AD; Mounting Type: Through Hole, Right Angle; Supplier: Digi-Key; Connector Type: Jack; Supplier Part Number: CP-102AH-ND; Termination: Solder; Contact Material: Copper; Housing Material: Thermoplastic; Contact Material - Plating: Nickel; Housing Color: Black; Operating Temperature: -25°C ~ 85°C; Color: Black
footprint PJ-002
footprint PJ-002
footprint PJ-002
footprint PJ-102 (Power Jack w/switch small pins)
footprint PJ-102 (Power Jack w/switch small pins)
footprint PJ-102 (Power Jack w/switch small pins)
pins: 1, 2, 3

## CONN JACK PWR W/SW_1
designator P?, comment Manufacturer Part Number: PJ-102AH  (hidden comment: PJ-102)
CONN PWR JACK 2.1X5.5MM HIGH CUR; Manufacturer: CUI Inc; Internal Switch(s): Single Switch, Normally Closed; Number of Positions/Contacts: 2 Conductors, 3 Contacts; Plug/Mating Plug Diameter: 2.1mm ID, 5.5mm OD; Gender: Male; Shielding: Unshielded; Voltage - Rated: 24VDC; Current Rating: 5A; Value: CP-102AD; Mounting Type: Through Hole, Right Angle; Supplier: Digi-Key; Connector Type: Jack; Supplier Part Number: CP-102AH-ND; Termination: Solder; Contact Material: Copper; Housing Material: Thermoplastic; Contact Material - Plating: Nickel; Housing Color: Black; Operating Temperature: -25°C ~ 85°C; Color: Black
footprint PJ-002
footprint PJ-002
footprint PJ-002
footprint PJ-102 (Power Jack w/switch small pins)
footprint PJ-102 (Power Jack w/switch small pins)
footprint PJ-102 (Power Jack w/switch small pins)
pins: 1, 2, 3

## CONN_HEADER_MALE_1x5
designator J?  (value not drawn)
Header, 5-Pin; Manufacturer 1: Sullins; Manufacturer Part Number 1: PREC005SACN-RC; Number of Positions: 5; Connector Type: Male Pin; Pitch: 0.1inch; ComponentLink1URL: http://www.farnell.com/cad/1737268.pdf; ComponentLink1Description: http://www.farnell.com/cad/1737268.pdf; ComponentLink2URL: http://katalog.we-online.de/em/datasheet/6130xx11121.pdf; ComponentLink2Description: http://katalog.we-online.de/em/datasheet/6130xx11121.pdf; Supplier 1: Digi-Key; Stock 1: 0; Pricing 1: 1=0.19000, 10=0.17400, 25=0.12960, 50=0.11120, 100=0.10740, 250=0.09264, 500=0.08892 (USD); RoHS: Yes; Mount: Through Hole; Color: Black; Contact Plating: Tin; Package Quantity: 1; Number of Rows: 1; Packaging: Bulk; Termination: Solder; Contact Mating Length: 0.23inch; ComponentLink3URL: https://datasheet.ciiva.com/741/xrxczzzsxxn-rc-st-11635-b-741840.pdf?src-supplier=Digi-Key; ComponentLink3Description: https://datasheet.ciiva.com/741/xrxczzzsxxn-rc-st-11635-b-741840.pdf?src-supplier=Digi-Key; Supplier Part Number 1: S1032EC-05-ND
footprint HDR1X5 (Connector; Header; 5 Position)
pins: 1, 2, 3, 4, 5

## DRV8811
designator U?  Manufacturer Part Number: DRV8811PWP  (hidden comment: DRV8811)
DRV8811 1.9A Bipolar Stepper Mot; Manufacturer: Texas Instruments; Min Supply Voltage: 8V; Max Supply Voltage: 38V; Output Current: 2.5A; Quiescent Current: 8mA; Number of Outputs: 1; Output Voltage: 24V; Max Collector Current: 1.4A; Supplier 1: Mouser; RoHS: Yes; Category: Integrated Circuits (ICs); Stock 1: 7; Pricing 1: 1=5.35000, 10=4.80000, 50=4.53000, 100=3.93000, 250=3.73000, 500=3.34000, 1000=3.34000, 10000=3.34000 (USD); Case/Package: HTSSOP; Number of Pins: 28; Weight: 0.00418oz; Min Operating Temperature: -40°C; Max Operating Temperature: 85°C; Packaging: Rail/Tube; Package Quantity: 50; Nominal Supply Current: 2.5A; Max Output Current: 1.9A; Series: -; Supply Current: 2.5A; Type: Integrated Circuit (IC); Collector Emitter Voltage (VCEO): 38V; Motor Type: Stepper; Length: 9.8mm; Width: 4.5mm; Height: 1.05mm; Radiation Hardening: No; Lead Free: Lead Free; RoHS Compliant: Yes; Reach SVHC Compliant: Yes; ComponentLink1URL: https://datasheet.ciiva.com/15109/getdatasheetpartid-226283-15109439.pdf?src-supplier=Verical; ComponentLink1Description: https://datasheet.ciiva.com/15109/getdatasheetpartid-226283-15109439.pdf?src-supplier=Verical; ComponentLink2URL: https://datasheet.ciiva.com/1500/1787005-1500613.pdf?src-supplier=Element14; ComponentLink2Description: https://datasheet.ciiva.com/1500/1787005-1500613.pdf?src-supplier=Element14; ComponentLink3URL: https://datasheet.ciiva.com/1558/drv8811-1558191.pdf?src-supplier=Farnell; ComponentLink3Description: https://datasheet.ciiva.com/1558/drv8811-1558191.pdf?src-supplier=Farnell; ComponentLink4URL: https://datasheet.ciiva.com/1501/drv8811-1501538.pdf?src-supplier=Element14; ComponentLink4Description: https://datasheet.ciiva.com/1501/drv8811-1501538.pdf?src-supplier=Element14; ComponentLink5URL: https://datasheet.ciiva.com/1959/drv8811-1959294.pdf?src-supplier=Digi-Key; ComponentLink5Description: https://datasheet.ciiva.com/1959/drv8811-1959294.pdf?src-supplier=Digi-Key; Supplier Part Number 1: 595-DRV8811PWP
footprint PWP0028C_M (SOP, 28-Leads, Body 9.8x4.5mm, Pitch 0.65mm, Thermal Pad 5.18x3.1mm, IPC Low Density)
pins: 1 ISensA, 2 ~{Home} (out), 3 Dir (in), 4 Aout1, 5 Decay, 6 RCA, 7 GND, 8 Vref, 9 RCB, 10 Vcc, 11 Bout1, 12 USM1 (in), 13 USM0 (in), 14 ISensB, 15 VMB, 16 SR (in), 17 ~{Reset} (in), 18 Bout2, 19 Step (in), 20 VGD, 21 GND, 22 VCP, 23 CP1, 24 CP2, 25 Aout2, 26 ~{Enable} (in), 27 ~{Sleep} (in), 28 VMA, 29 PAD

## JS202011SCQN
designator SW?  (value not drawn)
C & K COMPONENTS - JS202011SCQN - SWITCH, DPDT, 0.6A, 6VDC, SMD; Manufacturer 1: ITT C&K; Actuator Material: Nylon,Polyamide,PA46; Actuator Color: Black; Voltage Rating (DC): 6V; Current Rating: 300mA; Electrical Life: 5000Cycles; Switch Function: On-On; Contact Resistance: 70mR; Switch Travel: 2mm; Actuator Type: Standard; Supplier 1: Digi-Key; Supplier Part Number 1: 401-2002-1-ND; Manufacturer Part Number 1: JS202011SCQN; RoHS: Yes; Category: Slide Switches; Stock 1: 21096; Pricing 1: 1=0.55000, 10=0.53000, 25=0.51040, 100=0.44180, 250=0.40252, 500=0.37306 (USD); Mount: Surface Mount; Contact Plating: Silver; Contact Material: Copper Alloy; Housing Material: Nylon; Min Operating Temperature: -20°C; Max Operating Temperature: 85°C; Throw Configuration: DPDT; Packaging: Tape and Reel; Package Quantity: 1; Termination: Gull Wing; Max Voltage Rating (DC): 6V; Series: JS; Max Current Rating: 300mA; Contact Current Rating: 300mA; Orientation: Vertical; Length: 9mm; Depth: 7.5mm; Actuator Length: 2mm; Radiation Hardening: No; REACH SVHC: No SVHC; Lead Free: Lead Free; Flammability Rating: UL94 V-2; ComponentLink1URL: https://datasheet.ciiva.com/2889/js-29aug13-2889127.pdf?src-supplier=Digi-Key; ComponentLink1Description: https://datasheet.ciiva.com/2889/js-29aug13-2889127.pdf?src-supplier=Digi-Key; ComponentLink2URL: https://datasheet.ciiva.com/23829/1707718-23829488.pdf?src-supplier=Newark; ComponentLink2Description: https://datasheet.ciiva.com/23829/1707718-23829488.pdf?src-supplier=Newark; ComponentLink3URL: https://datasheet.ciiva.com/8625/js-9dec14-8625470.pdf?src-supplier=Avnet; ComponentLink3Description: https://datasheet.ciiva.com/8625/js-9dec14-8625470.pdf?src-supplier=Avnet; ComponentLink4URL: https://datasheet.ciiva.com/2889/js-15sept15-2889128.pdf?src-supplier=Digi-Key; ComponentLink4Description: https://datasheet.ciiva.com/2889/js-15sept15-2889128.pdf?src-supplier=Digi-Key; ComponentLink5URL: https://datasheet.ciiva.com/2889/js-15sept15-2889129.pdf?src-supplier=Digi-Key; ComponentLink5Description: https://datasheet.ciiva.com/2889/js-15sept15-2889129.pdf?src-supplier=Digi-Key; ComponentLink6URL: https://datasheet.ciiva.com/22630/1707718-22630697.pdf?src-supplier=Element14; ComponentLink6Description: https://datasheet.ciiva.com/22630/1707718-22630697.pdf?src-supplier=Element14
footprint C&K_Components_0_MFG
pins: 1, 2, 3, 4, 5, 6

## LM2735XMF-NOPB
designator U?  Manufacturer Part Number 1: LM2735XMF/NOPB  (hidden comment: LM2735XMF-NOPB)
IC REG MULT CONFG ADJ 2.1A SOT23; Manufacturer 1: TI National Semiconductor; Max Input Voltage: 5.5V; Max Output Current: 3A; Min Supply Voltage: 2.7V; Output Voltage: 24V; Switching Frequency: 1.6MHz; Nominal Supply Current: 500uA; Efficiency: 90%; Number of Outputs: 1; Synchronous Rectifier: No; Min Output Voltage: 3V; Quiescent Current: 7mA; Topology: Boost,SEPIC; Output Type: Adjustable; Supplier 1: Digi-Key; Supplier Part Number 1: LM2735XMF/NOPBCT-ND; RoHS: Yes; Category: Voltage Regulators - Switching; Stock 1: 5135; Pricing 1: 1=2.27000, 10=2.03900, 25=1.92400, 100=1.63920, 250=1.53912, 500=1.34672 (USD); Mount: Surface Mount; Case/Package: SOT-23; Number of Pins: 5; Contact Plating: Tin,Matte; Min Operating Temperature: -40°C; Max Operating Temperature: 125°C; Output Current: 3A; Min Input Voltage: 2.7V; Packaging: Tape and Reel; Package Quantity: 1000; Max Output Voltage: 24V; Operating Supply Voltage: 5.5V; Series: LM2735; Supply Current: 500uA; Length: 2.92mm; Width: 1.6mm; Height: 1.02mm; Radiation Hardening: No; REACH SVHC: No SVHC; Lead Free: Lead Free; RoHS Compliant: Yes; ComponentLink1URL: https://datasheet.ciiva.com/22669/1802021-22669478.pdf?src-supplier=Element14; ComponentLink1Description: https://datasheet.ciiva.com/22669/1802021-22669478.pdf?src-supplier=Element14; ComponentLink2URL: https://datasheet.ciiva.com/3220/lm2735-3220073.pdf?src-supplier=Avnet; ComponentLink2Description: https://datasheet.ciiva.com/3220/lm2735-3220073.pdf?src-supplier=Avnet; ComponentLink3URL: https://datasheet.ciiva.com/3221/lm2735-3221644.pdf?src-supplier=Avnet; ComponentLink3Description: https://datasheet.ciiva.com/3221/lm2735-3221644.pdf?src-supplier=Avnet; ComponentLink4URL: https://datasheet.ciiva.com/6579/lm2735-6579929.pdf?src-supplier=Digi-Key; ComponentLink4Description: https://datasheet.ciiva.com/6579/lm2735-6579929.pdf?src-supplier=Digi-Key; ComponentLink5URL: https://datasheet.ciiva.com/6579/lm2735-6579933.pdf?src-supplier=Digi-Key; ComponentLink5Description: https://datasheet.ciiva.com/6579/lm2735-6579933.pdf?src-supplier=Digi-Key; ComponentLink6URL: https://datasheet.ciiva.com/6579/lm2735-6579935.pdf?src-supplier=Digi-Key; ComponentLink6Description: https://datasheet.ciiva.com/6579/lm2735-6579935.pdf?src-supplier=Digi-Key; ComponentLink7URL: https://datasheet.ciiva.com/15223/getdatasheetpartid-142075-15223063.pdf?src-supplier=Verical; ComponentLink7Description: https://datasheet.ciiva.com/15223/getdatasheetpartid-142075-15223063.pdf?src-supplier=Verical
footprint Texas_Instruments_DBV0005A_0
pins: 1 SW (out), 2 GND (power), 3 FB (in), 4 EN (in), 5 VIN (power)

## M95512-DWDW4TP/K
designator U?
EEPROM Serial-SPI 512K-bit 64K x 8 3.3V/5V Automotive 8-Pin TSSOP T/R; Manufacturer: STMicroelectronics; Interface: SPI,Serial; Density: 512Kb; Frequency: 16MHz; Min Supply Voltage: 2.5V; Max Supply Voltage: 5.5V; Access Time-Max: 25ns; Organization: 64KX8; Write Protection: YES; Supply Current: 4mA; Supplier: Newark; Supplier Part Number: 47AK6816; Manufacturer Part Number: M95512-DWDW4TP/K; RoHS: Yes; Category: EEPROM; Stock: 3947; Pricing: 1=2.47, 10=2.21, 25=2.18, 50=2.18, 100=1.95, 250=1.88, 500=1.88, 1000=1.74 (USD); Mounting Technology: Surface Mount; Case/Package: TSSOP; Pins: 8; Min Operating Temperature: -40°C; Max Operating Temperature: 145°C; Packaging: Tape and Reel; Memory Format: EEPROM; Clock Frequency: 16MHz; Series: -; Programming Voltage: 5.5V; Radiation Hardening: No; RoHS Compliant: Yes; ComponentLink1URL: https://datasheet.ciiva.com/29614/dm00046608-29614432.pdf?src-supplier=Digi-Key; ComponentLink1Description: https://datasheet.ciiva.com/29614/dm00046608-29614432.pdf?src-supplier=Digi-Key; ComponentLink2URL: https://datasheet.ciiva.com/48501/dm00046608-48501612.pdf?src-supplier=Avnet; ComponentLink2Description: https://datasheet.ciiva.com/48501/dm00046608-48501612.pdf?src-supplier=Avnet
footprint TSSOP8_169MILS_DW_STM-M
pins: 1 *S (in), 2 Q (out), 3 *W (in), 4 VSS, 5 D (in), 6 C (in), 7 *HOLD (in), 8 VCC (power)

## MHOLE_2_55MM
designator MH?  (value not drawn)  (no BOM)
Mounting Holde; Manufacturer Part Number: UW MTHOLE
footprint MHOLE_2_55MM (2.55MM Mounting Hole)
pins: 1

## NRS4018T2R2MDGJ
designator L?  Inductance: 2.2uH  (hidden comment: NRS4018T2R2MDGJ)
Inductor Power Shielded Wirewound 2.2uH 20% 100KHz Ferrite 2.2A 0.0504Ohm DCR 1515 T/R; Manufacturer 1: Taiyo Yuden; Self Resonant Frequency: 60MHz; DC Resistance (DCR): 50.4mR; Max DC Current: 3A; ComponentLink1URL: https://datasheet.ciiva.com/8502/nr6028t2r2n-ss-8502679.pdf?src-supplier=Avnet; ComponentLink1Description: https://datasheet.ciiva.com/8502/nr6028t2r2n-ss-8502679.pdf?src-supplier=Avnet; ComponentLink2URL: https://datasheet.ciiva.com/15988/8nr6028t2r2n-15988110.pdf?src-supplier=Onlinecomponents.com; ComponentLink2Description: https://datasheet.ciiva.com/15988/8nr6028t2r2n-15988110.pdf?src-supplier=Onlinecomponents.com; ComponentLink3URL: https://datasheet.ciiva.com/7291/nr6028t2r2n-ss-7291637.pdf?src-supplier=Newark; ComponentLink3Description: https://datasheet.ciiva.com/7291/nr6028t2r2n-ss-7291637.pdf?src-supplier=Newark; ComponentLink4URL: https://datasheet.ciiva.com/1043/wound04-e-1043090.pdf?src-supplier=Digi-Key; ComponentLink4Description: https://datasheet.ciiva.com/1043/wound04-e-1043090.pdf?src-supplier=Digi-Key; ComponentLink5URL: https://datasheet.ciiva.com/1043/wound04-e-1043091.pdf?src-supplier=Digi-Key; ComponentLink5Description: https://datasheet.ciiva.com/1043/wound04-e-1043091.pdf?src-supplier=Digi-Key; ComponentLink6URL: https://datasheet.ciiva.com/1043/wound04-e-1043092.pdf?src-supplier=Digi-Key; ComponentLink6Description: https://datasheet.ciiva.com/1043/wound04-e-1043092.pdf?src-supplier=Digi-Key; Supplier 1: Digi-Key; Supplier Part Number 1: 587-2890-1-ND; Manufacturer Part Number 1: NRS4018T2R2MDGJ; RoHS: Yes; Category: Fixed Inductors; Stock 1: 291635; Pricing 1: 1=0.27000, 10=0.23800, 25=0.20840, 50=0.17860, 100=0.16370, 250=0.14884, 500=0.13990, 1000=0.10716 (USD); Mount: Surface Mount; Case/Package: Nonstandard; Number of Pins: 2; Core Material: Ferrite; Min Operating Temperature: -25°C; Max Operating Temperature: 125°C; Packaging: Tape and Reel; Tolerance: 20%; Package Quantity: 3500; Current Rating: 2.2A; Saturation Current: 3A; Shielding: Shielded; Resistor Type: Wirewound; Test Frequency: 100kHz; Termination: SMD/SMT; Inductance Tolerance: 20%; RMS Current (Irms): 2.2A; Series: NRS; Length: 4mm; Width: 0.157inch; Height: 1.8mm; Height - Seated (Max): 0.071inch; Depth: 4.2mm; Lead Pitch: 2.8mm; Radiation Hardening: No; Halogen Free: Halogen Free; Lead Free: Lead Free; RoHS Compliant: Yes; REACH SVHC: Unknown; ComponentLink7URL: https://datasheet.ciiva.com/8502/nrs4018t2r2mdgj-ss-8502646.pdf?src-supplier=Avnet; ComponentLink7Description: https://datasheet.ciiva.com/8502/nrs4018t2r2mdgj-ss-8502646.pdf?src-supplier=Avnet; ComponentLink8URL: https://datasheet.ciiva.com/7291/nrs4018t2r2mdgj-ss-7291680.pdf?src-supplier=Newark; ComponentLink8Description: https://datasheet.ciiva.com/7291/nrs4018t2r2mdgj-ss-7291680.pdf?src-supplier=Newark; ComponentLink9URL: https://datasheet.ciiva.com/25607/0900766b810b3cd2-25607949.pdf?src-supplier=RSComponents; ComponentLink9Description: https://datasheet.ciiva.com/25607/0900766b810b3cd2-25607949.pdf?src-supplier=RSComponents
footprint IND_TAIYO_NRS4018_TAY
pins: 1, 2

## Res3
designator R?, comment 10K
Res Thick Film 0805 10K Ohm 1% 0.125W ±100ppm/°C Molded SMD Paper T/R; Manufacturer: Stackpole Electronics; Manufacturer Part Number: RMCF0805FT10K0; Power Rating: 125mW; ComponentLink1URL: https://datasheet.ciiva.com/15193/getdatasheetpartid-362046-15193525.pdf?src-supplier=Verical; ComponentLink1Description: https://datasheet.ciiva.com/15193/getdatasheetpartid-362046-15193525.pdf?src-supplier=Verical; Supplier 1: Digi-Key; Supplier Part Number 1: RMCF0805FT10K0CT-ND; RoHS: Yes; Category: Chip SMD Resistors; Stock 1: 3732463; Pricing 1: 1=0.10000, 10=0.02400, 100=0.00970, 1000=0.00437, 2500=0.00379 (USD); Mounting Technology: Surface Mount; Case/Package: 0805; Case Code (Metric): 2012; Case Code (Imperial): 0805; Contact Plating: Tin,Matte; Min Operating Temperature: -55°C; Max Operating Temperature: 155°C; Tolerance: 1%; Packaging: Tape and Reel; Resistor Type: Thick Film; Number of Terminations: 2; Temperature Coefficient: 100ppm/°C; Max Power Dissipation: 125mW; Features: Automotive AEC-Q200; Series: RMCF; Construction: Rectangular; Length: 2mm; Width: 0.049inch; Height: 0.026inch; Depth: 1.25mm; Radiation Hardening: No; Lead Free: Lead Free; Military Standard: Not; RoHS Compliant: Yes; Value: 10K
simulation model RESISTOR (Resistor)
signal-integrity model Res
footprint RESC3216M (Chip Resistor, Body 3.2x1.6mm, IPC Low Density)
footprint RESC2012M (Chip Resistor, Body 2.0x1.3mm, IPC Low Density)
pins: 1, 2

## Res3_1
designator R?, comment value 1K  (hidden comment: 10K)
Res Thick Film 0805 1K Ohm 1% 0.125W(1/8W) ±100ppm/C Pad SMD Automotive T/R; Manufacturer: Stackpole Electronics; Manufacturer Part Number: RMCF0805FT1K00; Power Rating: 125mW; Temperature Coefficient: 100ppm/°C; Supplier 1: Digi-Key; Supplier Part Number 1: RMCF0805FT1K00CT-ND; RoHS: Yes; Category: Chip SMD Resistors; Stock 1: 2773085; Pricing 1: 1=0.10000, 10=0.02400, 100=0.00970, 1000=0.00437, 2500=0.00379 (USD); Mounting Technology: Surface Mount; Case/Package: 0805; Case Code (Metric): 2012; Case Code (Imperial): 0805; Contact Plating: Tin,Matte; Min Operating Temperature: -55°C; Max Operating Temperature: 155°C; Tolerance: 1%; Packaging: Tape and Reel; Resistor Type: Thick Film; Number of Terminations: 2; Max Power Dissipation: 125mW; Features: Automotive AEC-Q200; Series: RMCF; Construction: Rectangular; Length: 2mm; Width: 0.049inch; Height: 0.026inch; Depth: 1.25mm; Radiation Hardening: No; Military Standard: Not; Lead Free: Lead Free; RoHS Compliant: Yes; ComponentLink1URL: https://datasheet.ciiva.com/15193/getdatasheetpartid-360136-15193546.pdf?src-supplier=Verical; ComponentLink1Description: https://datasheet.ciiva.com/15193/getdatasheetpartid-360136-15193546.pdf?src-supplier=Verical
simulation model RESISTOR (Resistor)
signal-integrity model Res
footprint RESC3216M (Chip Resistor, Body 3.2x1.6mm, IPC Low Density)
footprint RESC2012M (Chip Resistor, Body 2.0x1.3mm, IPC Low Density)
pins: 1, 2

## Res3_2
designator R?, comment value 0.1  (hidden comment: 1)
Res 0.1 Ohm 1% 1W 1206; Manufacturer: Cyntec; Manufacturer Part Number: SCRR1206S1-R100F; Supplier 1: Digi-Key; Supplier Part Number 1: 2037-SCRR1206S1-R100FCT-ND; RoHS: Yes; Category: Chip SMD Resistors; Stock 1: 10585; Pricing 1: 1=0.61000, 10=0.45100, 25=0.36600, 50=0.31820, 100=0.26250, 250=0.22800, 500=0.18558, 1000=0.14720 (USD)
simulation model RESISTOR (Resistor)
signal-integrity model Res
footprint RESC3216M (Chip Resistor, Body 3.2x1.6mm, IPC Low Density)
footprint RESC2012M (Chip Resistor, Body 2.0x1.3mm, IPC Low Density)
pins: 1, 2